# Altium schematic symbol library Schlib1.SchLib: 5 symbols
Pins are listed as number, name and electrical type; pins without a type are passive.

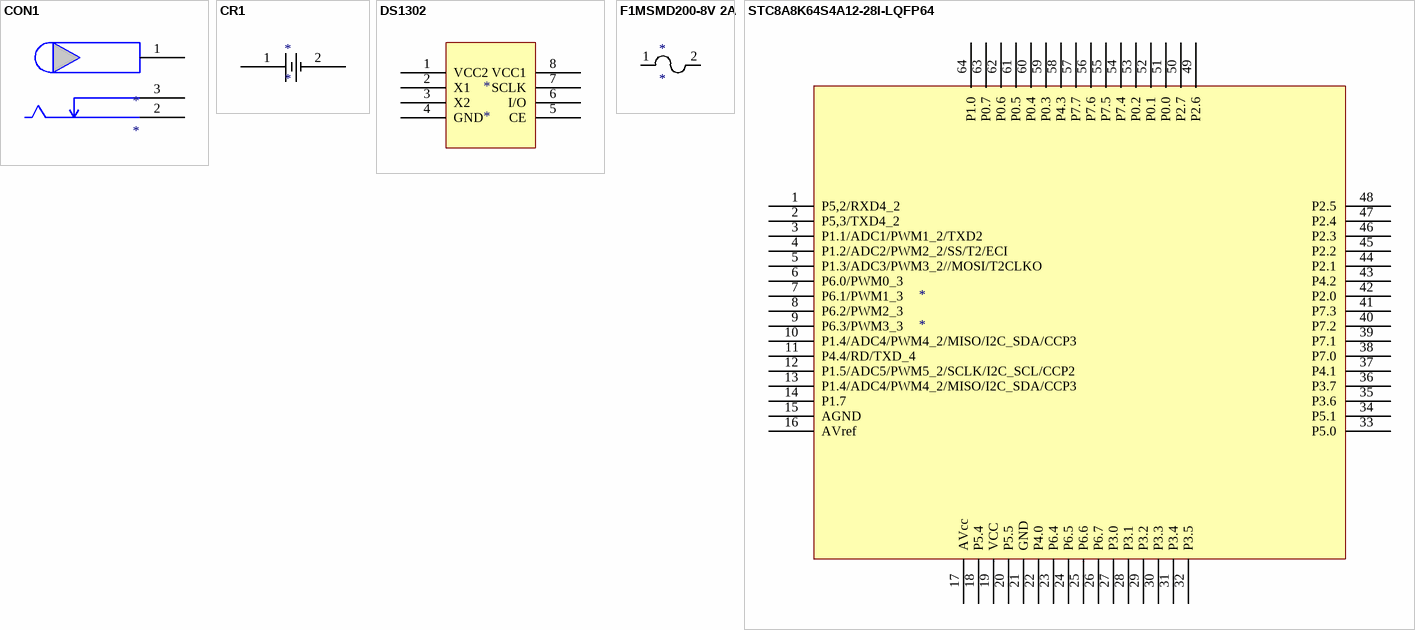
[diagram p0: symbols CON1 to STC8A8K64S4A12-28I-LQFP64]

## CON1
designator *
footprint CON
pins: 1, 2, 3

## CR1
designator *
footprint DIANC
pins: 1, 2

## DS1302
designator *
footprint SOP8_M (5*6*1.8mm（长宽高）)
pins: 1 VCC2, 2 X1, 3 X2, 4 GND, 5 CE, 6 I/O, 7 SCLK, 8 VCC1

## F1MSMD200-8V 2A
designator *
footprint R 0805-HP_L (1/8W高精度贴片电阻)
pins: 1, 2

## STC8A8K64S4A12-28I-LQFP64
designator *
footprint CQFP64P1522X1522X310-64N (CQFP, 64-Leads, Body 15.22x15.22mm, Pitch 0.64mm, IPC Medium Density)
pins: 1 P5,2/RXD4_2, 2 P5,3/TXD4_2, 3 P1.1/ADC1/PWM1_2/TXD2, 4 P1.2/ADC2/PWM2_2/SS/T2/ECI, 5 P1.3/ADC3/PWM3_2//MOSI/T2CLKO, 6 P6.0/PWM0_3, 7 P6.1/PWM1_3, 8 P6.2/PWM2_3, 9 P6.3/PWM3_3, 10 P1.4/ADC4/PWM4_2/MISO/I2C_SDA/CCP3, 11 P4.4/RD/TXD_4, 12 P1.5/ADC5/PWM5_2/SCLK/I2C_SCL/CCP2, 13 P1.4/ADC4/PWM4_2/MISO/I2C_SDA/CCP3, 14 P1.7, 15 AGND, 16 AVref, 17 AVcc, 18 P5.4, 19 VCC, 20 P5.5, 21 GND, 22 P4.0, 23 P6.4, 24 P6.5, 25 P6.6, 26 P6.7, 27 P3.0, 28 P3.1, 29 P3.2, 30 P3.3, 31 P3.4, 32 P3.5, 33 P5.0, 34 P5.1, 35 P3.6, 36 P3.7, 37 P4.1, 38 P7.0, 39 P7.1, 40 P7.2, 41 P7.3, 42 P2.0, 43 P4.2, 44 P2.1, 45 P2.2, 46 P2.3, 47 P2.4, 48 P2.5, 49 P2.6, 50 P2.7, 51 P0.0, 52 P0.1, 53 P0.2, 54 P7.4, 55 P7.5, 56 P7.6, 57 P7.7, 58 P4.3, 59 P0.3, 60 P0.4, 61 P0.5, 62 P0.6, 63 P0.7, 64 P1.0